# EAGLE library part SST26VF064B-104I_MF (library SST26VF064B-104I_MF)
SST26VF064B-104I/MF, SPI Split Gate Flash Memory, 8M x 8 bit 64Mbit, 3ns, 2.7 3.6 V, 8-Pin, WDFN Source: Datasheet <http://www.microchip.com/mymicrochip/filehandler.aspx?ddocname=en561262>
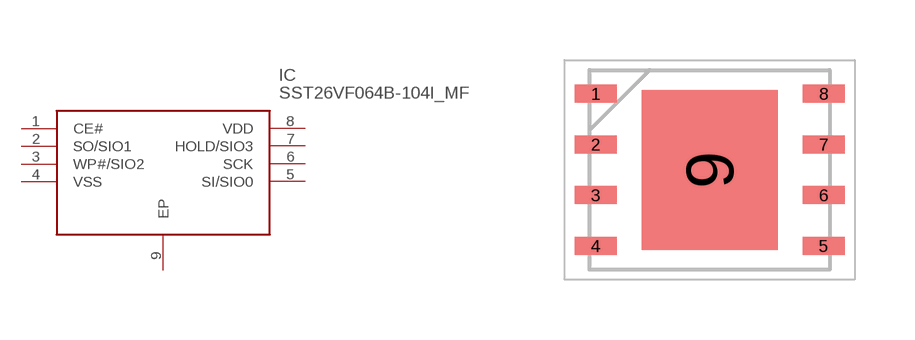
[diagram p0: symbol with the pads of SON127P600X500X80-9N; footprint SON127P600X500X80-9N]

Designator prefix IC

## SST26VF064B-104I_MF (Description: SST26VF064B-104I/MF, SPI Split Gate Flash Memory, 8M x 8 bit 64Mbit, 3ns, 2.7 3.6 V, 8-Pin, WDFN; Height: 0.8mm; Manufacturer_Name: Microchip; Manufacturer_Part_Number: SST26VF064B-104I/MF; Mouser_Part_Number: 579-ST26VF064B104IMF; Mouser_Price-Stock: https://www.mouser.co.uk/ProductDetail/Microchip-Technology-Atmel/SST26VF064B-104I-MF?qs=wzzOUr4NhYqR1%252B6K2JaweQ%3D%3D)  [SON127P600X500X80-9N]
1  CE#
2  SO/SIO1
3  WP#/SIO2
4  VSS
5  SI/SIO0
6  SCK
7  HOLD/SIO3
8  VDD
9  EP

## Footprint SON127P600X500X80-9N (pad centres in mm)
8-Lead Plastic Very, Very Thin Small Outline No-Lead (MF) - 5x6 mm Body [WDFN]
smd 1.05 x 0.45: 1 -2.85,1.905; 2 -2.85,0.635; 3 -2.85,-0.635; 4 -2.85,-1.905; 5 2.85,-1.905; 6 2.85,-0.635; 7 2.85,0.635; 8 2.85,1.905
smd 3.4 x 4: 9 0,0